# EAGLE library part I__4572 (library ..SMD)
INVERTER/OR/NOR (MC14572BCP)
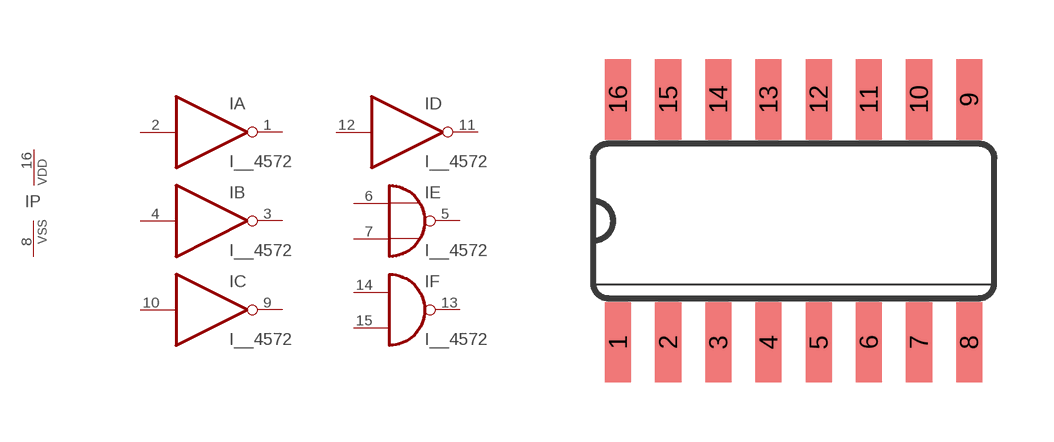
[diagram p139: symbol with the pads of SO16; footprint SO16]

Designator prefix I; gates P=PWRN A=4572 B=4572 C=4572 D=4572 E=4572/A F=4572/B

## I__4572D  [SO16]
1  A:O  out
2  A:I  in
3  B:O  out
4  B:I  in
5  E:O  out
6  E:I0  in
7  E:I1  in
8  P:VSS  pwr
9  C:O  out
10  C:I  in
11  D:O  out
12  D:I  in
13  F:O  out
14  F:I0  in
15  F:I1  in
16  P:VDD  pwr

## Footprint SO16 (pad centres in mm)
Small Outline Package 16
smd 0.66 x 2.032: 1 -4.445,-3.073; 2 -3.175,-3.073; 3 -1.905,-3.073; 4 -0.635,-3.073; 5 0.635,-3.073; 6 1.905,-3.073; 7 3.175,-3.073; 8 4.445,-3.073; 9 4.445,3.073; 10 3.175,3.073; 11 1.905,3.073; 12 0.635,3.073; 13 -0.635,3.073; 14 -1.905,3.073; 15 -3.175,3.073; 16 -4.445,3.073